# EAGLE library part MCP6022 (library SaintGimp)
Dual opamp
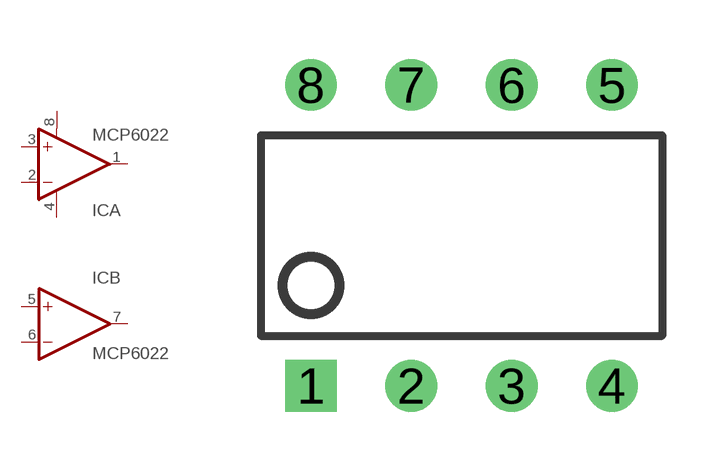
[diagram p17: symbol with the pads of DIP08; footprint DIP08]

Designator prefix IC; gates A=OP-AMP+- B=OP-AMP

## MCP6022  [DIP08]
1  A:OUT  out
2  A:-IN  in
3  A:+IN  in
4  A:V-  pwr
5  B:+IN  in
6  B:-IN  in
7  B:OUT  out
8  A:V+  pwr

## Footprint DIP08 (pad centres in mm)
Dual In Line
drill 0.8 square: 1 -3.81,-3.81
drill 0.8: 2 -1.27,-3.81; 3 1.27,-3.81; 4 3.81,-3.81; 5 3.81,3.81; 6 1.27,3.81; 7 -1.27,3.81; 8 -3.81,3.81